# Altium schematic symbol library R-CRCW06032M00JNEA.Schlib: 1 symbol
Pins are listed as number, name and electrical type; pins without a type are passive.

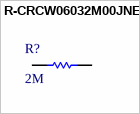
[diagram p0: symbol R-CRCW06032M00JNEA]

## R-CRCW06032M00JNEA
designator R?, comment 2M
Thick Film Resistors - SMD 1/10watt 2Mohms 5%
pins: 1, 2